# EAGLE library part MOTOR_CONNECTOR (library maciver_robot_lib)
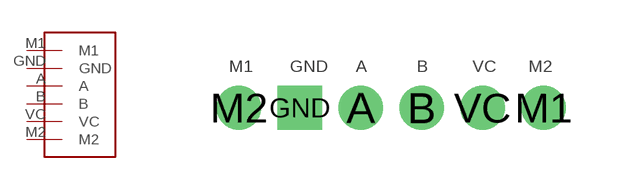
[diagram p3: symbol with the pads of MOTOR_CONNECTOR; footprint MOTOR_CONNECTOR]

Designator prefix -

## MOTOR_CONNECTOR  [MOTOR_CONNECTOR]
A  A
B  B
GND  GND
M1  M1
M2  M2
VC  VC

## Footprint MOTOR_CONNECTOR (pad centres in mm)
drill 0.6: A -0.762,0; B 0.762,0; M1 3.81,0; M2 -3.81,0; VC 2.286,0
drill 0.6 square: GND -2.286,0